# EAGLE library part SP723 (library arduinoShield)
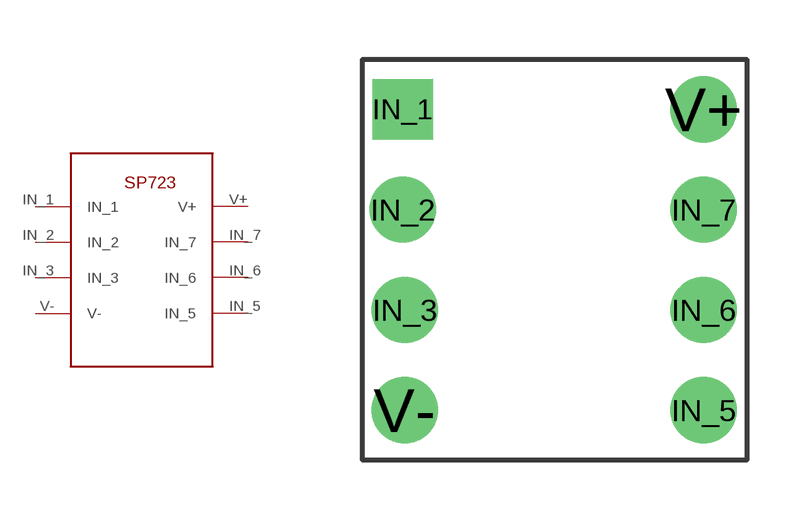
[diagram p1: symbol with the pads of SP723; footprint SP723]

Designator prefix -

## SP723  [SP723]
IN_1  IN_1
IN_2  IN_2
IN_3  IN_3
IN_5  IN_5
IN_6  IN_6
IN_7  IN_7
V+  V+
V-  V-

## Footprint SP723 (pad centres in mm)
drill 1.016 square: IN_1 1.041,-1.346
drill 1.016 pad 1.676: IN_2 1.041,-3.886; IN_3 1.092,-6.426; IN_5 8.661,-8.966; IN_6 8.661,-6.426; IN_7 8.661,-3.886; V+ 8.661,-1.346; V- 1.092,-8.966